# EAGLE library part 1-5103309-0 (library Tyco_By_element14_Batch_1)
WIRE-BOARD CONN, HEADER, 50POS
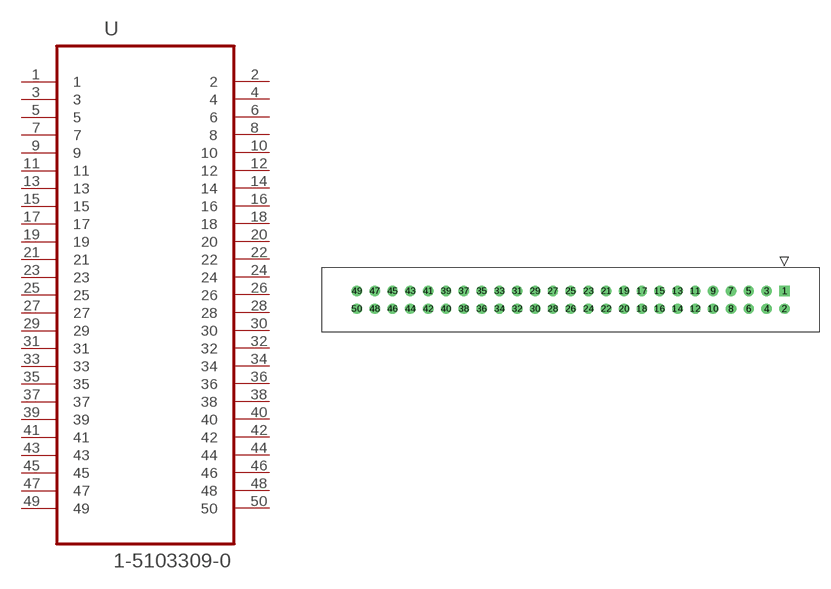
[diagram p19: symbol with the pads of TYCO_1-5103309-0; footprint TYCO_1-5103309-0]

Designator prefix U

## 1-5103309-0 (MPN: 1-5103309-0; OC_FARNELL: 1363154; OC_NEWARK: 16M2660; PACKAGE: 50 WAY HEADER; SUPPLIER: TycoElectronics)  [TYCO_1-5103309-0]
1  1  pas
2  2  pas
3  3  pas
4  4  pas
5  5  pas
6  6  pas
7  7  pas
8  8  pas
9  9  pas
10  10  pas
11  11  pas
12  12  pas
13  13  pas
14  14  pas
15  15  pas
16  16  pas
17  17  pas
18  18  pas
19  19  pas
20  20  pas
21  21  pas
22  22  pas
23  23  pas
24  24  pas
25  25  pas
26  26  pas
27  27  pas
28  28  pas
29  29  pas
30  30  pas
31  31  pas
32  32  pas
33  33  pas
34  34  pas
35  35  pas
36  36  pas
37  37  pas
38  38  pas
39  39  pas
40  40  pas
41  41  pas
42  42  pas
43  43  pas
44  44  pas
45  45  pas
46  46  pas
47  47  pas
48  48  pas
49  49  pas
50  50  pas

## Footprint TYCO_1-5103309-0 (pad centres in mm)
drill 0.965 square: 1 0,2.54
drill 0.965: 2 0,0; 3 -2.54,2.54; 4 -2.54,0; 5 -5.08,2.54; 6 -5.08,0; 7 -7.62,2.54; 8 -7.62,0; 9 -10.16,2.54; 10 -10.16,0; 11 -12.7,2.54; 12 -12.7,0; 13 -15.24,2.54; 14 -15.24,0; 15 -17.78,2.54; 16 -17.78,0; 17 -20.32,2.54; 18 -20.32,0; 19 -22.86,2.54; 20 -22.86,0; 21 -25.4,2.54; 22 -25.4,0; 23 -27.94,2.54; 24 -27.94,0; 25 -30.48,2.54; 26 -30.48,0; 27 -33.02,2.54; 28 -33.02,0; 29 -35.56,2.54; 30 -35.56,0; 31 -38.1,2.54; 32 -38.1,0; 33 -40.64,2.54; 34 -40.64,0; 35 -43.18,2.54; 36 -43.18,0; 37 -45.72,2.54; 38 -45.72,0; 39 -48.26,2.54; 40 -48.26,0; 41 -50.8,2.54; 42 -50.8,0; 43 -53.34,2.54; 44 -53.34,0; 45 -55.88,2.54; 46 -55.88,0; 47 -58.42,2.54; 48 -58.42,0; 49 -60.96,2.54; 50 -60.96,0